# Altium footprint library 7.接插件封装.PcbLib: 201 footprints (part 1 of 13)
Each footprint in its own frame and in the unit in brackets; x right, y up, seen from the top. Pads: shape width x height; smd on the part's side, far side on the other; paste and mask are expansions set on the pad; w line width, h text height; cw(c..) or ccw(c..) is an arc to the next point about the centre after c.
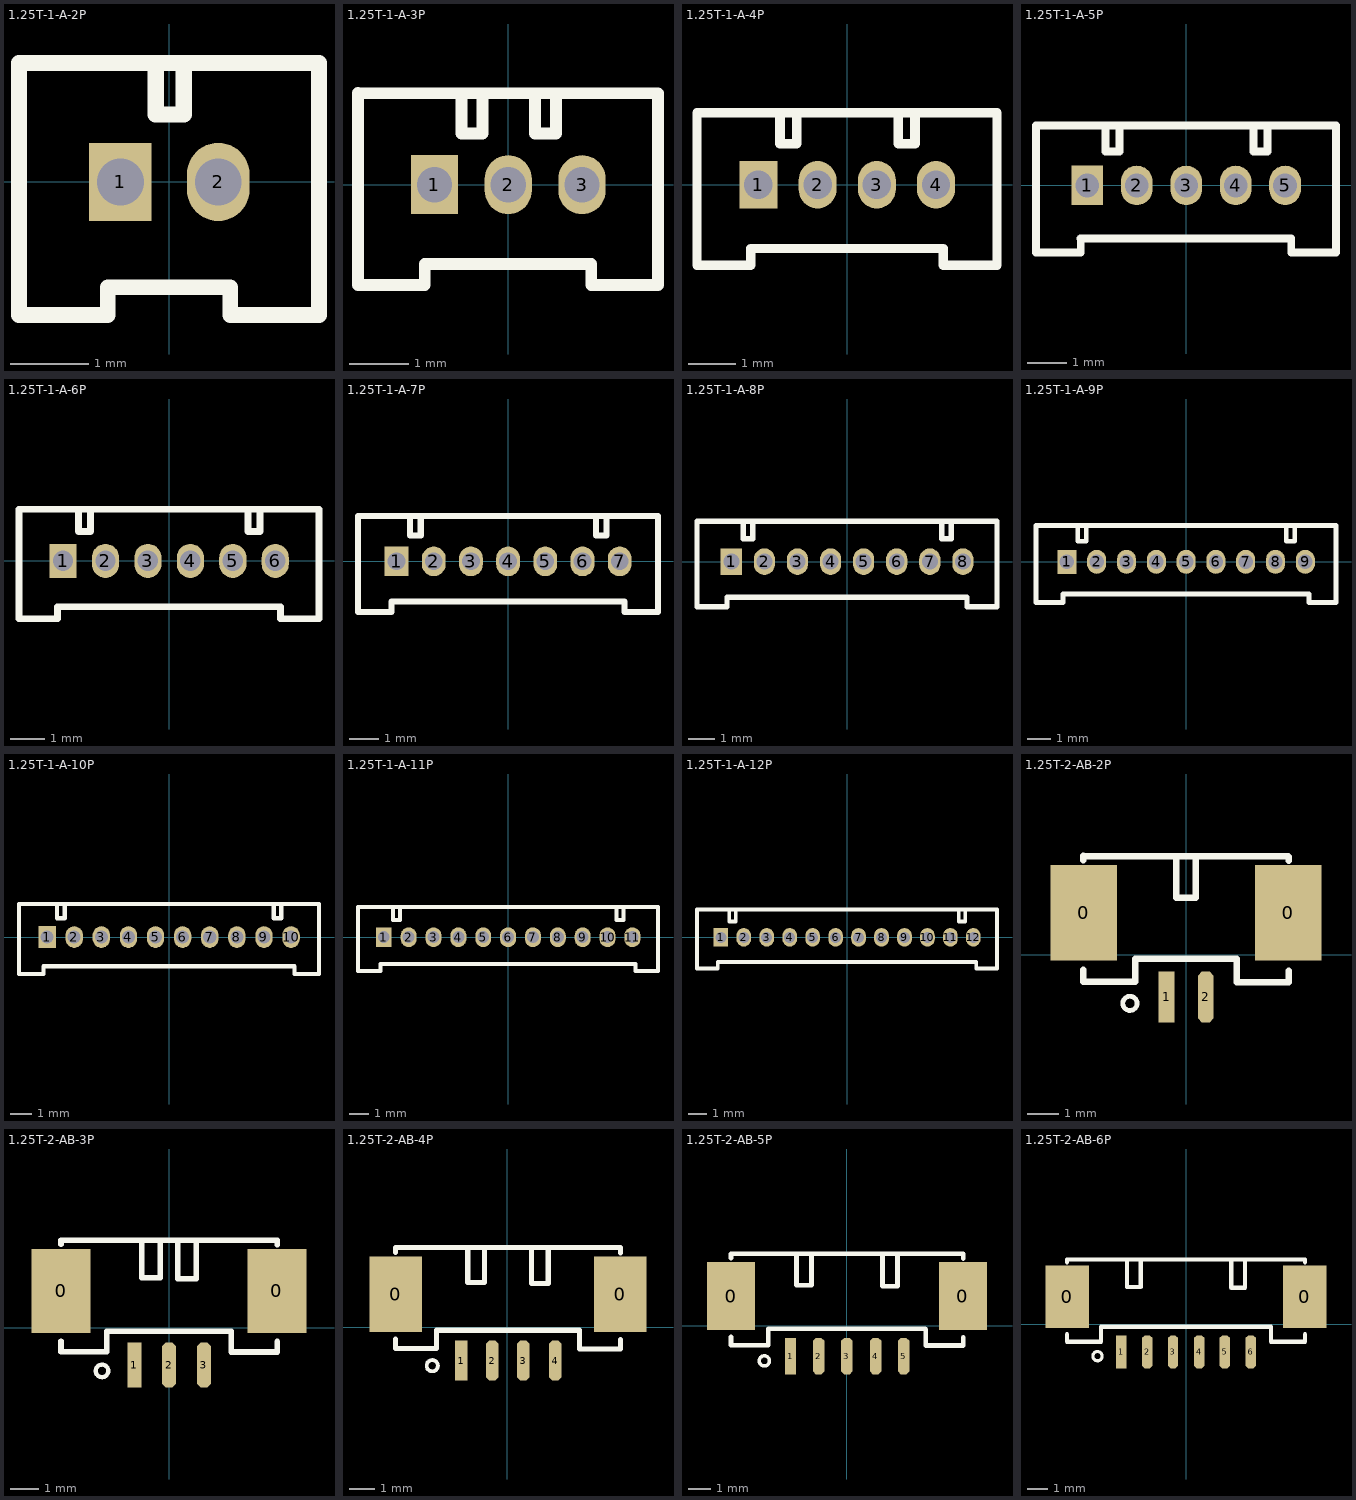
[diagram p0: the footprints below, top view; thin cyan lines are the x and y axes]

## 1.25T-1-A-2P [mm]
pads (2):
  rect 0.8x1 hole 0.6: 1(-0.625,0)
  oval 0.8x1 hole 0.6: 2(0.625,0)
Top Overlay:
  lines w0.2: -1.921,1.52 -1.921,-1.7 -0.789,-1.7 -0.789,-1.346 ; -1.88,1.52 1.913,1.52 1.913,-1.7 0.78,-1.7 0.78,-1.346 ; -0.762,-1.346 0.737,-1.346
  lines w0.203: -0.175,1.508 -0.175,0.864 0.181,0.864 0.181,1.52 ; -0.168,1.508 -0.168,0.864 0.188,0.864 0.188,1.52

## 1.25T-1-A-3P [mm]
pads (3):
  rect 0.8x1 hole 0.6: 1(-1.25,0)
  oval 0.8x1 hole 0.6 paste+0: 2(0,0)
  oval 0.8x1 hole 0.6: 3(1.25,0)
Top Overlay:
  lines w0.2: 1.397,-1.346 -1.414,-1.346 -1.414,-1.7 -2.546,-1.7 -2.546,1.552 2.538,1.549 2.538,-1.7 1.405,-1.7 1.405,-1.346
  lines w0.203: -0.793,1.508 -0.793,0.864 -0.437,0.864 -0.437,1.52 ; 0.45,1.508 0.45,0.864 0.806,0.864 0.806,1.52

## 1.25T-1-A-4P [mm]
pads (4):
  rect 0.8x1 hole 0.6: 1(-1.875,0)
  oval 0.8x1 hole 0.6: 2(-0.625,0) 3(0.625,0) 4(1.875,0)
Top Overlay:
  lines w0.2: -3.171,1.52 -3.171,-1.7 -2.039,-1.7 -2.039,-1.346 2.007,-1.346 ; -3.15,1.52 3.163,1.52 3.163,-1.7 2.03,-1.7 2.03,-1.346
  lines w0.203: -1.418,1.508 -1.418,0.864 -1.062,0.864 -1.062,1.52 ; 1.075,1.508 1.075,0.864 1.431,0.864 1.431,1.52

## 1.25T-1-A-5P [mm]
pads (5):
  rect 0.8x1 hole 0.6: 1(-2.5,0)
  oval 0.8x1 hole 0.6: 2(-1.25,0) 3(0,0) 4(1.25,0) 5(2.5,0)
Top Overlay:
  lines w0.2: -3.796,1.52 -3.796,-1.7 -2.664,-1.7 -2.664,-1.346 ; -3.759,1.52 3.785,1.52 ; -2.667,-1.346 2.655,-1.346 2.655,-1.7 3.788,-1.7 3.788,1.52
  lines w0.203: -2.043,1.508 -2.043,0.864 -1.687,0.864 -1.687,1.52 ; 1.7,1.508 1.7,0.864 2.056,0.864 2.056,1.52

## 1.25T-1-A-6P [mm]
pads (6):
  rect 0.8x1 hole 0.6: 1(-3.125,0)
  oval 0.8x1 hole 0.6: 2(-1.875,0) 3(-0.625,0) 4(0.625,0) 5(1.875,0) 6(3.125,0)
Top Overlay:
  lines w0.2: -4.421,1.52 -4.421,-1.7 -3.289,-1.7 -3.289,-1.346 3.277,-1.346 ; -4.42,1.52 4.394,1.52 ; 3.28,-1.346 3.28,-1.7 4.413,-1.7 4.413,1.52
  lines w0.203: -2.668,1.508 -2.668,0.864 -2.312,0.864 -2.312,1.52 ; 2.325,1.508 2.325,0.864 2.681,0.864 2.681,1.52

## 1.25T-1-A-7P [mm]
pads (7):
  rect 0.8x1 hole 0.6: 1(-3.75,0)
  oval 0.8x1 hole 0.6: 2(-2.5,0) 3(-1.25,0) 4(0,0) 5(1.25,0) 6(2.5,0) 7(3.75,0)
Top Overlay:
  lines w0.2: 5.035,1.52 -5.046,1.52 -5.046,-1.7 -3.914,-1.7 -3.914,-1.346 3.905,-1.346 3.905,-1.7 5.038,-1.7 5.038,1.52
  lines w0.203: -3.293,1.508 -3.293,0.864 -2.937,0.864 -2.937,1.52 ; 2.95,1.508 2.95,0.864 3.306,0.864 3.306,1.52

## 1.25T-1-A-8P [mm]
pads (8):
  rect 0.8x1 hole 0.6: 1(-4.375,0)
  oval 0.8x1 hole 0.6: 2(-3.125,0) 3(-1.875,0) 4(-0.625,0) 5(0.625,0) 6(1.875,0) 7(3.125,0) 8(4.375,0)
Top Overlay:
  lines w0.2: -5.671,-1.7 -4.539,-1.7 -4.539,-1.346 4.53,-1.346 4.53,-1.7 5.663,-1.7 5.663,1.52 -5.671,1.52 -5.671,-1.7
  lines w0.203: -3.918,1.508 -3.918,0.864 -3.562,0.864 -3.562,1.52 ; 3.575,1.508 3.575,0.864 3.931,0.864 3.931,1.52

## 1.25T-1-A-9P [mm]
pads (9):
  rect 0.8x1 hole 0.6: 1(-5,0)
  oval 0.8x1 hole 0.6: 2(-3.75,0) 3(-2.5,0) 4(-1.25,0) 5(0,0) 6(1.25,0) 7(2.5,0) 8(3.75,0) 9(5,0)
Top Overlay:
  lines w0.2: 5.155,-1.346 5.155,-1.7 6.288,-1.7 6.288,1.52 ; 5.156,-1.346 -5.164,-1.346 -5.164,-1.7 -6.296,-1.7 -6.296,1.52 6.274,1.52
  lines w0.203: -4.543,1.508 -4.543,0.864 -4.187,0.864 -4.187,1.52 ; 4.2,1.508 4.2,0.864 4.556,0.864 4.556,1.52

## 1.25T-1-A-10P [mm]
pads (10):
  rect 0.8x1 hole 0.6: 1(-5.625,0)
  oval 0.8x1 hole 0.6: 2(-4.375,0) 3(-3.125,0) 4(-1.875,0) 5(-0.625,0) 6(0.625,0) 7(1.875,0) 8(3.125,0) 9(4.375,0) 10(5.625,0)
Top Overlay:
  lines w0.2: -6.921,1.52 -6.921,-1.7 -5.789,-1.7 -5.789,-1.346 ; -6.909,1.52 6.909,1.52 ; -5.791,-1.346 5.766,-1.346 ; 5.78,-1.346 5.78,-1.7 6.913,-1.7 6.913,1.52
  lines w0.203: -5.168,1.508 -5.168,0.864 -4.812,0.864 -4.812,1.52 ; 4.825,1.508 4.825,0.864 5.181,0.864 5.181,1.52

## 1.25T-1-A-11P [mm]
pads (11):
  rect 0.8x1 hole 0.6: 1(-6.25,0)
  oval 0.8x1 hole 0.6: 2(-5,0) 3(-3.75,0) 4(-2.5,0) 5(-1.25,0) 6(0,0) 7(1.25,0) 8(2.5,0) 9(3.75,0) 10(5,0) 11(6.25,0)
Top Overlay:
  lines w0.2: -7.546,1.52 -7.546,-1.7 -6.414,-1.7 -6.414,-1.346 ; -7.534,1.52 7.528,1.52 ; -6.416,-1.346 6.385,-1.346 ; 6.405,-1.346 6.405,-1.7 7.538,-1.7 7.538,1.52
  lines w0.203: -5.793,1.508 -5.793,0.864 -5.437,0.864 -5.437,1.52 ; 5.45,1.508 5.45,0.864 5.806,0.864 5.806,1.52

## 1.25T-1-A-12P [mm]
pads (12):
  rect 0.8x1 hole 0.6: 1(-6.875,0)
  oval 0.8x1 hole 0.6: 2(-5.625,0) 3(-4.375,0) 4(-3.125,0) 5(-1.875,0) 6(-0.625,0) 7(0.625,0) 8(1.875,0) 9(3.125,0) 10(4.375,0) 11(5.625,0) 12(6.875,0)
Top Overlay:
  lines w0.2: -8.171,1.52 -8.171,-1.7 -7.039,-1.7 -7.039,-1.346 ; -8.153,1.52 8.153,1.52 ; -7.036,-1.346 7.01,-1.346 ; 7.03,-1.346 7.03,-1.7 8.163,-1.7 8.163,1.52
  lines w0.203: -6.418,1.508 -6.418,0.864 -6.062,0.864 -6.062,1.52 ; 6.075,1.508 6.075,0.864 6.431,0.864 6.431,1.52

## 1.25T-2-AB-2P [mm]
pads (4):
  rect 2.1x3 smd: 0(-3.222,1.323) 0(3.222,1.323)
  rect 0.5x1.6 smd: 1(-0.613,-1.323)
  oct 0.5x1.6 smd: 2(0.622,-1.323)
Top Overlay:
  circle w0.15: c-1.764,-1.527 r0.224
  lines w0.203: -3.229,-0.469 -3.229,-0.84 -1.594,-0.84 -1.594,-0.127 1.594,-0.127 1.594,-0.868 3.236,-0.868 3.236,-0.496 ; -3.229,2.985 -3.229,3.122 ; -3.226,3.108 3.226,3.108 ; -0.311,3.069 -0.311,1.792 0.311,1.792 0.311,3.097 ; 3.236,2.958 3.236,3.095

## 1.25T-2-AB-3P [mm]
pads (5):
  rect 2.1x3 smd: 0(-3.845,1.309) 0(3.843,1.309)
  rect 0.5x1.6 smd: 1(-1.235,-1.337)
  oct 0.5x1.6 smd: 2(0,-1.337) 3(1.243,-1.337)
Top Overlay:
  circle w0.15: c-2.387,-1.541 r0.224
  lines w0.203: -3.852,-0.483 -3.852,-0.854 -2.217,-0.854 -2.217,-0.127 2.215,-0.127 2.215,-0.868 3.857,-0.868 3.857,-0.496 ; -3.852,2.972 -3.852,3.108 3.854,3.108 ; -0.972,3.108 -0.972,1.778 -0.312,1.778 -0.312,3.083 ; 0.31,3.069 0.31,1.739 0.971,1.739 0.971,3.044 ; 3.857,2.958 3.857,3.095

## 1.25T-2-AB-4P [mm]
pads (6):
  rect 2.1x3 smd: 0(-4.445,1.325) 0(4.504,1.325)
  rect 0.5x1.6 smd: 1(-1.835,-1.321)
  oct 0.5x1.6 smd: 2(-0.6,-1.321) 3(0.643,-1.321) 4(1.904,-1.321)
Top Overlay:
  circle w0.15: c-2.987,-1.525 r0.224
  lines w0.203: -4.452,-0.467 -4.452,-0.838 -2.817,-0.838 -2.817,-0.111 2.873,-0.111 ; -4.452,2.988 -4.452,3.191 4.518,3.191 4.518,2.974 ; -1.572,3.124 -1.572,1.794 -0.912,1.794 -0.912,3.099 ; 0.971,3.085 0.971,1.755 1.632,1.755 1.632,3.06 ; 2.876,-0.125 2.876,-0.852 4.518,-0.852 4.518,-0.48

## 1.25T-2-AB-5P [mm]
pads (7):
  rect 2.1x3 smd: 0(-5.088,1.309) 0(5.096,1.309)
  rect 0.5x1.6 smd: 1(-2.479,-1.337)
  oct 0.5x1.6 smd: 2(-1.243,-1.337) 3(0,-1.337) 4(1.261,-1.337) 5(2.496,-1.337)
Top Overlay:
  circle w0.15: c-3.63,-1.541 r0.224
  lines w0.203: -5.095,-0.483 -5.095,-0.854 -3.46,-0.854 -3.46,-0.127 3.449,-0.127 3.468,-0.147 3.468,-0.868 5.11,-0.868 5.11,-0.496 ; -5.095,2.972 -5.095,3.175 5.11,3.175 5.11,2.958 ; -2.216,3.108 -2.216,1.778 -1.555,1.778 -1.555,3.083 ; 1.563,3.069 1.563,1.739 2.224,1.739 2.224,3.044

## 1.25T-2-AB-6P [mm]
pads (8):
  rect 2.1x3 smd: 0(-5.718,1.312) 0(5.71,1.312)
  rect 0.5x1.6 smd: 1(-3.109,-1.334)
  oct 0.5x1.6 smd: 2(-1.873,-1.334) 3(-0.63,-1.334) 4(0.631,-1.334) 5(1.866,-1.334) 6(3.11,-1.334)
Top Overlay:
  circle w0.15: c-4.26,-1.539 r0.224
  lines w0.203: -5.725,-0.48 -5.725,-0.852 -4.09,-0.852 -4.09,-0.125 4.082,-0.125 4.082,-0.852 5.723,-0.852 5.723,-0.48 ; -5.725,2.974 -5.725,3.111 5.714,3.111 ; -2.846,3.111 -2.846,1.78 -2.185,1.78 -2.185,3.085 ; 2.177,3.085 2.177,1.755 2.837,1.755 2.837,3.06 ; 5.723,2.974 5.723,3.111